# Altium schematic symbol library MPM3632SGPQ-P.SchLib: 2 symbols
Pins are listed as number, name and electrical type; pins without a type are passive.

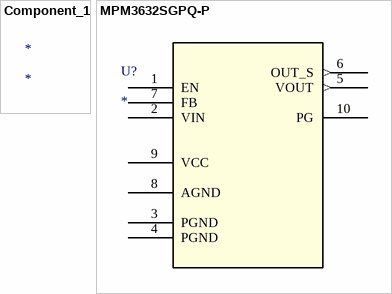
[diagram p0: symbols Component_1 to MPM3632SGPQ-P]

## Component_1
designator *

## MPM3632SGPQ-P
designator U?
No Description Available; Mfr_Name: Monolithic Power Systems; RefDes: RefDes; Type: Type
footprint EC_LGA-10_MNP
pins: 1 EN, 2 VIN, 3 PGND (power), 4 PGND (power), 5 VOUT (out), 6 OUT_S (out), 7 FB, 8 AGND (power), 9 VCC (power), 10 PG